# Altium footprint library KB396-3P.PcbLib: 1 footprints
Each footprint in its own frame and in the unit in brackets; x right, y up, seen from the top. Pads: shape width x height; smd on the part's side, far side on the other; paste and mask are expansions set on the pad; w line width, h text height; cw(c..) or ccw(c..) is an arc to the next point about the centre after c.
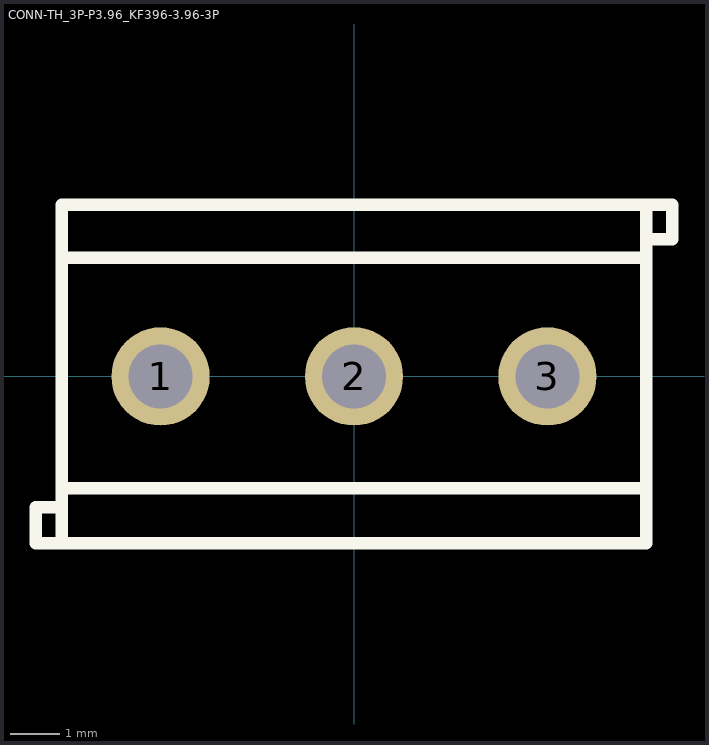
[diagram p0: the footprint, top view; thin cyan lines are the x and y axes]

## CONN-TH_3P-P3.96_KF396-3.96-3P [mm]
pads (3):
  round 2 hole 1.3: 1(-3.937,0) 2(0,0) 3(3.937,0)
Top Overlay:
  lines w0.254: -5.95,-2.667 -6.477,-2.667 -6.477,-3.4 -5.95,-3.4 ; -5.95,-2.271 5.95,-2.271 ; -5.95,2.413 5.95,2.413 ; 5.95,2.794 6.477,2.794 6.477,3.5 5.95,3.5 ; -5.95,-3.4 -5.95,3.5 5.95,3.5 ; -5.95,-3.4 5.95,-3.4 5.95,3.5